# Altium footprint library Galio-connectors.PcbLib: 64 footprints (part 4 of 4)
Each footprint in its own frame and in the unit in brackets; x right, y up, seen from the top. Pads: shape width x height; smd on the part's side, far side on the other; paste and mask are expansions set on the pad; w line width, h text height; cw(c..) or ccw(c..) is an arc to the next point about the centre after c.
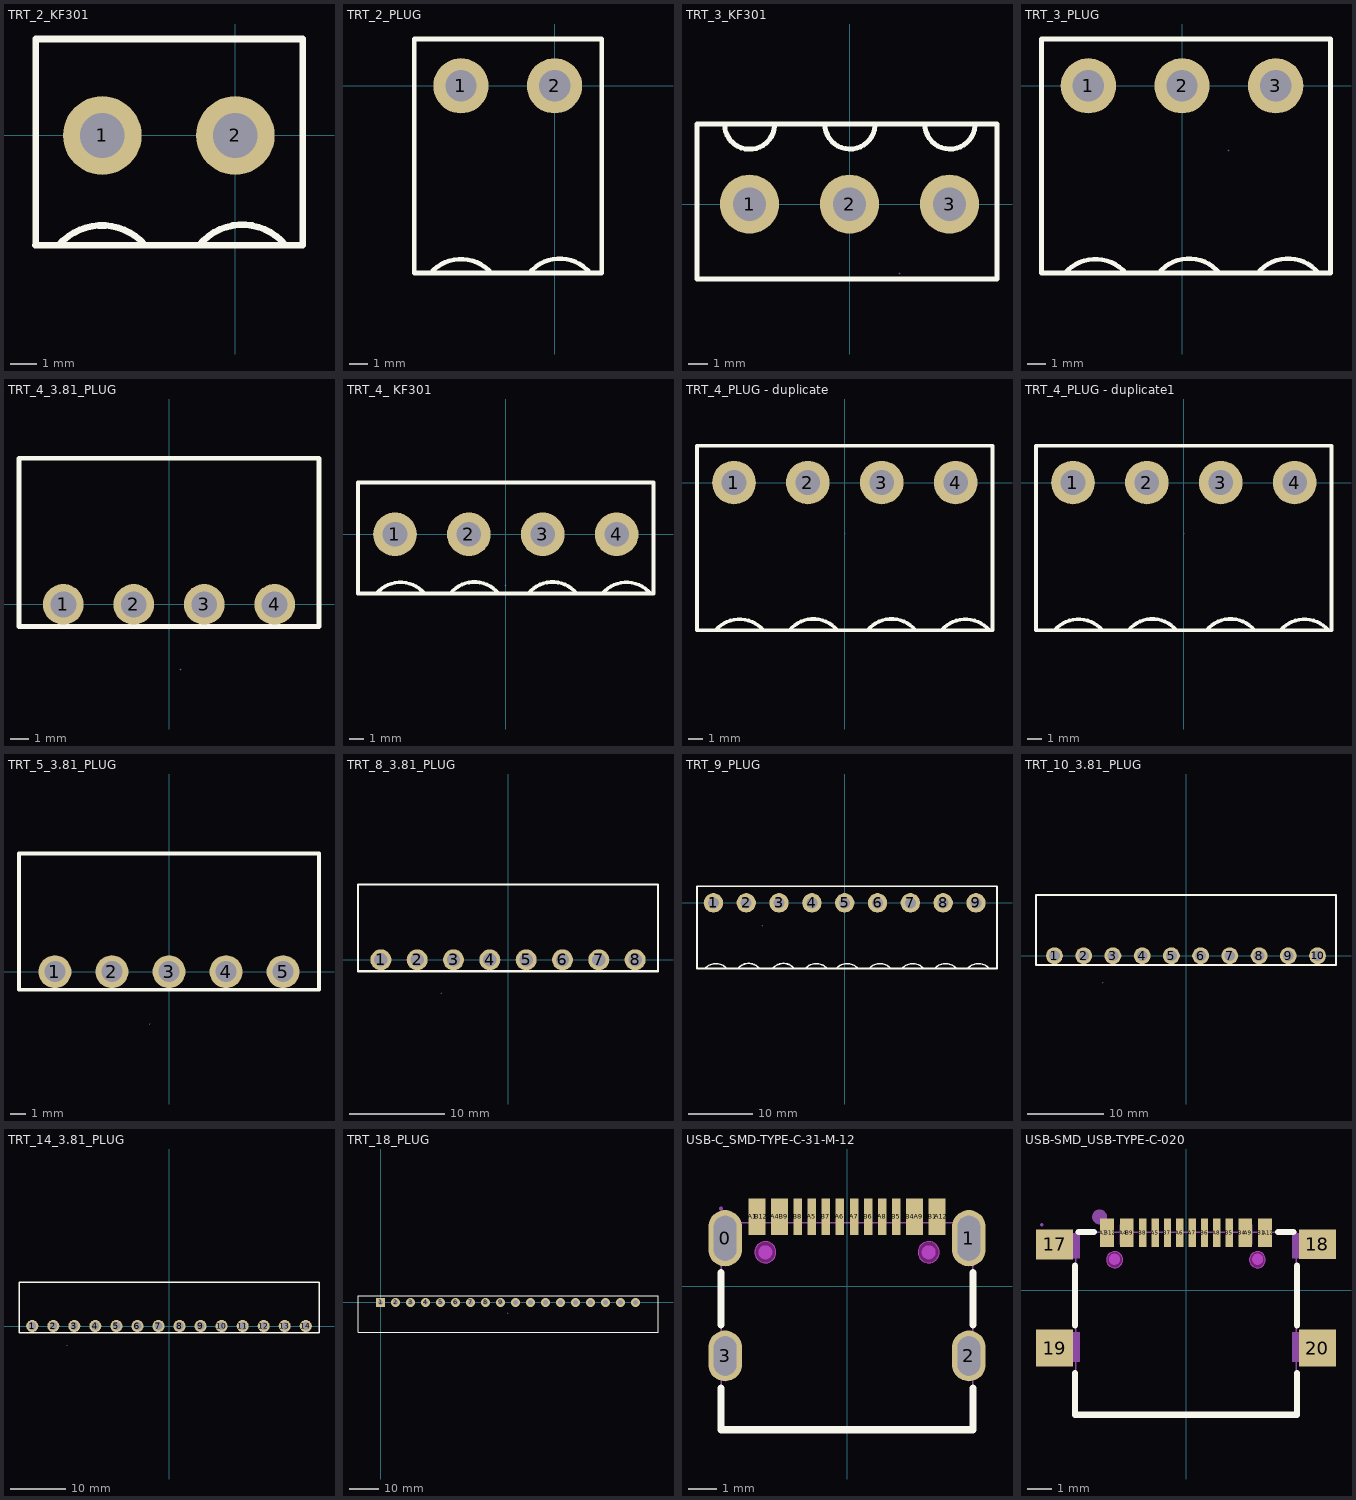
[diagram p3: the footprints below, top view; thin cyan lines are the x and y axes]

## TRT_2_KF301 [mm] "Bornera KF301 de 2 Pines 5mm"
pads (2):
  round 3 hole 1.7: 1(-5.08,0) 2(0,0)
Top Overlay:
  lines w0.254: -7.633,-4.191 2.553,-4.191 ; -7.62,-4.191 -7.62,3.683 0.019,3.683 2.565,3.683 2.565,-4.191 ; -6.744,-4.191 cw(c-5.093,-5.598) -3.442,-4.191 ; -1.384,-4.191 cw(c0.267,-5.526) 1.918,-4.191
Mechanical 15:
  lines w0.003: 2.515,-3.529 2.565,-3.478
3D body "kf301_2.STEP": height 10.03, standoff -3.47, extent -7.413,-4.064 2.587,3.536

## TRT_2_PLUG [mm] "Header,Male Pin,Covered(4 Sided)"
pads (2):
  round 3 hole 1.7: 1(-5.08,0) 2(0,0)
Top Overlay:
  lines w0.254: -6.731,-10.16 cw(c-5.08,-11.567) -3.429,-10.16 ; -1.372,-10.16 cw(c0.279,-11.495) 1.93,-10.16 ; -7.62,-10.16 2.565,-10.16 2.565,2.54 -7.62,2.54 -7.62,-10.16
Mechanical 15:
  lines w0.003: 2.515,-3.529 2.565,-3.478
3D body "14043.stp": height 8.6, standoff -3.5, extent -8.645,-9.996 3.515,2.007

## TRT_3_KF301 [mm] "Bornera KF301 3 pines"
pads (3):
  round 3 hole 1.7: 1(-5.08,0) 2(0,0) 3(5.08,0)
Top Overlay:
  lines w0.254: -6.35,4.064 ccw(c-5.074,4.064) -3.8,3.979 ; -1.254,4.07 ccw(c0.023,4.07) 1.296,3.985 ; 3.826,4.07 ccw(c5.103,4.07) 6.376,3.985 ; -7.747,-3.81 -7.747,4.064 7.493,4.064 7.493,-3.81 -7.747,-3.81
Mechanical 15:
  lines w0.003: 2.515,-3.529 2.565,-3.478
3D body "kf301_3.STEP": height 10, standoff -3.5, extent -7.634,-3.663 7.366,3.937

## TRT_3_PLUG [mm] "Header,Male Pin,Covered(4 Sided)"
pads (3):
  round 3 hole 1.7: 1(-5.08,0) 2(0,0) 3(5.08,0)
Top Overlay:
  lines w0.254: -6.35,-10.16 cw(c-4.699,-11.567) -3.048,-10.16 ; -1.27,-10.16 cw(c0.381,-11.495) 2.032,-10.16 ; 4.105,-10.16 cw(c5.756,-11.495) 7.407,-10.16 ; -7.62,-10.16 -7.62,2.54 8.052,2.54 8.052,-10.16 -7.62,-10.16
Mechanical 15:
  lines w0.003: 2.515,-3.529 2.565,-3.478
3D body "70054630.stp": height 8.6, standoff -3.5, extent -8.62,-9.957 8.62,2.045

## TRT_4_3.81_PLUG [mm] "Header,Male Pin,Covered(4 Sided)"
pads (4):
  round 2.2 hole 1.4: 1(-5.715,0) 2(-1.905,0) 3(1.905,0) 4(5.715,0)
Top Overlay:
  lines w0.254: -8.115,-1.2 8.115,-1.2 8.115,7.9 -8.115,7.9 -8.115,-1.2
Mechanical 15:
  lines w0.003: 0.61,-3.529 0.66,-3.478
3D body "15EDGRC-3.81-04P-14-00AH.STEP": height 7.2, standoff -3.4, extent -7.964,-1.194 8.066,8.006

## TRT_4_ KF301 [mm] "Bornera KF301 de 4 Pines 5mm"
pads (4):
  round 3 hole 1.7: 1(-7.62,0) 2(-2.54,0) 3(2.54,0) 4(7.62,0)
Top Overlay:
  lines w0.254: -8.89,-4.064 cw(c-7.239,-5.471) -5.588,-4.064 ; -3.81,-4.064 cw(c-2.159,-5.399) -0.508,-4.064 ; 1.565,-4.064 cw(c3.216,-5.399) 4.867,-4.064 ; 6.645,-4.064 cw(c8.296,-5.471) 9.947,-4.064 ; -10.16,-4.064 -10.16,3.556 10.16,3.556 10.16,-4.064 -10.16,-4.064
Mechanical 15:
  lines w0.003: -0.025,-3.529 0.025,-3.478
3D body "kf301_4.STEP": height 10.05, standoff -3.45, extent -10,-4.064 10,3.536

## TRT_4_PLUG - duplicate [mm] "Header,Male Pin,Covered(4 Sided)"
pads (4):
  round 3 hole 1.7: 1(-7.62,0) 2(-2.54,0) 3(2.54,0) 4(7.62,0)
Top Overlay:
  lines w0.254: -8.89,-10.16 cw(c-7.239,-11.567) -5.588,-10.16 ; -3.81,-10.16 cw(c-2.159,-11.495) -0.508,-10.16 ; 1.565,-10.16 cw(c3.216,-11.495) 4.867,-10.16 ; 6.645,-10.16 cw(c8.296,-11.567) 9.947,-10.16 ; -10.16,-10.16 -10.16,2.54 10.16,2.54 10.16,-10.16 -10.16,-10.16
Mechanical 15:
  lines w0.003: -0.025,-3.529 0.025,-3.478
3D body "64571.stp": height 8.6, standoff -3.5, extent -11.201,-9.938 11.119,2.064

## TRT_4_PLUG - duplicate1 [mm] "Header,Male Pin,Covered(4 Sided)"
pads (4):
  round 3 hole 1.7: 1(-7.62,0) 2(-2.54,0) 3(2.54,0) 4(7.62,0)
Top Overlay:
  lines w0.254: -8.89,-10.16 cw(c-7.239,-11.567) -5.588,-10.16 ; -3.81,-10.16 cw(c-2.159,-11.495) -0.508,-10.16 ; 1.565,-10.16 cw(c3.216,-11.495) 4.867,-10.16 ; 6.645,-10.16 cw(c8.296,-11.567) 9.947,-10.16 ; -10.16,-10.16 -10.16,2.54 10.16,2.54 10.16,-10.16 -10.16,-10.16
Mechanical 15:
  lines w0.003: -0.025,-3.529 0.025,-3.478
3D body "64571.stp": height 8.6, standoff -3.5, extent -11.201,-9.938 11.119,2.064

## TRT_5_3.81_PLUG [mm] "Header,Male Pin,Covered(5 Sided)"
pads (5):
  round 2.2 hole 1.4: 1(-7.62,0) 2(-3.81,0) 3(0,0) 4(3.81,0) 5(7.62,0)
Top Overlay:
  lines w0.254: -10.02,-1.2 10.02,-1.2 10.02,7.9 -10.02,7.9 -10.02,-1.2
Mechanical 15:
  lines w0.003: -1.295,-3.529 -1.245,-3.478
3D body "15EDGRC-3.81-05P-14-00AH.STEP": height 7.2, standoff -3.4, extent -9.906,-1.067 9.934,8.133

## TRT_8_3.81_PLUG [mm] "Header,Male Pin,Covered(8)"
pads (8):
  round 2.2 hole 1.4: 1(-13.335,0) 2(-9.525,0) 3(-5.715,0) 4(-1.905,0) 5(1.905,0) 6(5.715,0) 7(9.525,0) 8(13.335,0)
Top Overlay:
  lines w0.254: -15.735,-1.2 -15.735,7.9 15.735,7.9 15.735,-1.2 -15.735,-1.2
Mechanical 15:
  lines w0.003: -7.01,-3.529 -6.96,-3.478
3D body "15EDGRC-3.81-08P-14-00AH.STEP": height 7.2, standoff -3.4, extent -15.672,-1.168 15.598,8.032

## TRT_9_PLUG [mm] "Header,Male Pin,Covered(9 Sided)"
pads (9):
  round 3 hole 1.7: 1(-20.32,0) 2(-15.24,0) 3(-10.16,0) 4(-5.08,0) 5(0,0) 6(5.08,0) 7(10.16,0) 8(15.24,0) 9(20.32,0)
Top Overlay:
  lines w0.254: -21.59,-10.16 cw(c-19.939,-11.567) -18.288,-10.16 ; -16.51,-10.16 cw(c-14.859,-11.495) -13.208,-10.16 ; -11.135,-10.16 cw(c-9.484,-11.495) -7.833,-10.16 ; -6.055,-10.16 cw(c-4.404,-11.567) -2.753,-10.16 ; -1.27,-10.16 cw(c0.381,-11.567) 2.032,-10.16 ; 3.81,-10.16 cw(c5.461,-11.567) 7.112,-10.16 ; 8.89,-10.16 cw(c10.541,-11.567) 12.192,-10.16 ; 13.97,-10.16 cw(c15.621,-11.567) 17.272,-10.16 ; 19.05,-10.16 cw(c20.701,-11.567) 22.352,-10.16 ; -22.86,-10.16 -22.86,2.54 23.571,2.54 23.571,-10.16 -22.86,-10.16
Mechanical 15:
  lines w0.003: -12.725,-3.529 -12.675,-3.478
3D body "2EDGRC-5.08-09P-14-00AH.STEP": height 8.2, standoff -4, extent -23.549,-10.393 23.571,1.707

## TRT_10_3.81_PLUG [mm] "Header,Male Pin,Covered(10 Sided)"
pads (10):
  round 2.2 hole 1.4: 1(-17.145,0) 2(-13.335,0) 3(-9.525,0) 4(-5.715,0) 5(-1.905,0) 6(1.905,0) 7(5.715,0) 8(9.525,0) 9(13.335,0) 10(17.145,0)
Top Overlay:
  lines w0.254: -19.545,-1.2 -19.545,7.9 19.545,7.9 19.545,-1.2 -19.545,-1.2
Mechanical 15:
  lines w0.003: -10.82,-3.529 -10.77,-3.478
3D body "15EDGRC-3.81-10P-14-00AH.STEP": height 7.2, standoff -3.4, extent -19.406,-1.222 19.484,7.978

## TRT_14_3.81_PLUG [mm] "Header,Male Pin,Covered(14 Sided)"
pads (14):
  round 2.2 hole 1.4: 1(-24.765,0) 2(-20.955,0) 3(-17.145,0) 4(-13.335,0) 5(-9.525,0) 6(-5.715,0) 7(-1.905,0) 8(1.905,0) 9(5.715,0) 10(9.525,0) 11(13.335,0) 12(17.145,0) 13(20.955,0) 14(24.765,0)
Top Overlay:
  lines w0.254: -27.165,-1.2 27.165,-1.2 27.165,7.9 -27.165,7.9 -27.165,-1.2
Mechanical 15:
  lines w0.003: -18.44,-3.529 -18.39,-3.478
3D body "15EDGRC-3.81-14P-14-00AH.STEP": height 7.2, standoff -3.4, extent -27.054,-1.222 27.076,7.978

## TRT_18_PLUG [mm]
pads (18):
  rect 3x3 hole 1.8: 1(0,0)
  round 3 hole 1.8: 2(5.08,0) 3(10.16,0) 4(15.24,0) 5(20.32,0) 6(25.4,0) 7(30.48,0) 8(35.56,0) 9(40.64,0) 10(45.72,0) 11(50.8,0) 12(55.88,0) 13(60.96,0) 14(66.04,0) 15(71.12,0) 16(76.2,0) 17(81.28,0) 18(86.36,0)
Top Overlay:
  lines w0.254: -7.62,-10 93.98,-10 93.98,2.2 -7.62,2.2 -7.62,-10
Mechanical 15:
  lines w0.003: 43.155,-3.568 43.205,-3.517
3D body "User Library-5EHDR_2P.step": height 8.47, standoff -4, extent -2.515,-10.293 7.485,1.707
3D body "User Library-5EHDR_2P.step": height 8.47, standoff -4, extent 7.645,-10.293 17.645,1.707
3D body "User Library-5EHDR_2P.step": height 8.47, standoff -4, extent 17.805,-10.293 27.805,1.707
3D body "User Library-5EHDR_2P.step": height 8.47, standoff -4, extent 27.965,-10.293 37.965,1.707
3D body "User Library-5EHDR_2P.step": height 8.47, standoff -4, extent 38.125,-10.293 48.125,1.707
3D body "User Library-5EHDR_2P.step": height 8.47, standoff -4, extent 48.285,-10.293 58.285,1.707
3D body "User Library-5EHDR_2P.step": height 8.47, standoff -4, extent 58.445,-10.293 68.445,1.707
3D body "User Library-5EHDR_2P.step": height 8.47, standoff -4, extent 68.605,-10.293 78.605,1.707
3D body "User Library-5EHDR_2P.step": height 8.47, standoff -4, extent 78.765,-10.293 88.765,1.707

## USB-C_SMD-TYPE-C-31-M-12 [mm]
pads (20):
  oval 1.2x2 hole 0.8 slot 1.6 at 90 deg: 0(-4.325,1.706) 1(4.325,1.706)
  oval 1.2x1.8 hole 0.8 slot 1.4 at 90 deg: 2(4.325,-2.474) 3(-4.325,-2.474)
  rect 0.3x1.3 smd paste-100 mask+0.051: A1(-3.35,2.474) A4(-2.55,2.474) A5(-1.25,2.474) A6(-0.25,2.474) A7(0.25,2.474) A8(1.25,2.474) A9(2.55,2.474) A12(3.35,2.474) B1(3.05,2.474) B4(2.25,2.474) B5(1.75,2.474) B6(0.75,2.474) B7(-0.75,2.474) B8(-1.75,2.474) B9(-2.25,2.474) B12(-3.05,2.474)
Top Overlay:
  lines w0.254: -4.469,-3.613 -4.469,-5.094 4.471,-5.094 4.471,-3.612 ; -4.469,-1.376 -4.469,0.487 ; 4.471,-1.376 4.471,0.488
Top Paste:
  drawing of 16 lines, arcs and shapes, not listed
Keep-Out Layer:
  board cut-out: 3.275,1.206 3.275,1.131 3.218,0.993 3.112,0.888 2.975,0.831 2.825,0.831 2.687,0.888 2.582,0.993 2.525,1.131 2.525,1.206 2.525,1.28 2.582,1.418 2.687,1.524 2.825,1.581 2.975,1.581 3.112,1.524 3.218,1.418 3.275,1.28
  board cut-out: -2.525,1.206 -2.525,1.131 -2.582,0.993 -2.687,0.888 -2.825,0.831 -2.975,0.831 -3.112,0.888 -3.218,0.993 -3.275,1.131 -3.275,1.206 -3.275,1.28 -3.218,1.418 -3.112,1.524 -2.975,1.581 -2.825,1.581 -2.687,1.524 -2.582,1.418 -2.525,1.28
Keep-Out Layer:
  circle w0.025: c2.9,1.206 r0.375
  circle w0.025: c-2.9,1.206 r0.375
  region: 3.275,1.206 3.275,1.131 3.218,0.993 3.112,0.888 2.975,0.831 2.825,0.831 2.687,0.888 2.582,0.993 2.525,1.131 2.525,1.206 2.525,1.28 2.582,1.418 2.687,1.524 2.825,1.581 2.975,1.581 3.112,1.524 3.218,1.418 3.275,1.28
  region: -2.525,1.206 -2.525,1.131 -2.582,0.993 -2.687,0.888 -2.825,0.831 -2.975,0.831 -3.112,0.888 -3.218,0.993 -3.275,1.131 -3.275,1.206 -3.275,1.28 -3.218,1.418 -3.112,1.524 -2.975,1.581 -2.825,1.581 -2.687,1.524 -2.582,1.418 -2.525,1.28
Mechanical 1:
  circle w0.025: c2.9,1.206 r0.375
  circle w0.025: c-2.9,1.206 r0.375
Mechanical 6:
  circle w0.25: c-2.9,1.206 r0.125
  circle w0.25: c2.9,1.206 r0.125
Mechanical 15:
  region: -3.41,2.756 -3.21,2.756 -3.21,2.056 -3.41,2.056
  region: -3.21,2.756 -3.01,2.756 -3.01,2.056 -3.21,2.056
  region: -2.61,2.756 -2.41,2.756 -2.41,2.056 -2.61,2.056
  region: -2.41,2.756 -2.21,2.756 -2.21,2.056 -2.41,2.056
  region: 2.21,2.756 2.41,2.756 2.41,2.056 2.21,2.056
  region: 2.41,2.756 2.61,2.756 2.61,2.056 2.41,2.056
  region: -1.85,2.756 -1.65,2.756 -1.65,2.056 -1.85,2.056
  region: -1.35,2.756 -1.15,2.756 -1.15,2.056 -1.35,2.056
  region: -0.85,2.756 -0.65,2.756 -0.65,2.056 -0.85,2.056
  region: -0.35,2.756 -0.15,2.756 -0.15,2.056 -0.35,2.056
  region: 0.15,2.756 0.35,2.756 0.35,2.056 0.15,2.056
  region: 0.65,2.756 0.85,2.756 0.85,2.056 0.65,2.056
  region: 1.15,2.756 1.35,2.756 1.35,2.056 1.15,2.056
  region: 1.65,2.756 1.85,2.756 1.85,2.056 1.65,2.056
  region: 3.01,2.756 3.21,2.756 3.21,2.056 3.01,2.056
  region: 3.21,2.756 3.41,2.756 3.41,2.056 3.21,2.056
  region: -4.475,2.256 -4.175,2.256 -4.175,1.156 -4.475,1.156
  region: 4.175,2.256 4.475,2.256 4.475,1.156 4.175,1.156
  region: 4.175,-2.074 4.475,-2.074 4.475,-2.874 4.175,-2.874
  region: -4.475,-2.074 -4.175,-2.074 -4.175,-2.874 -4.475,-2.874
  region: -4.415,2.756 -4.415,2.731 -4.45,2.696 -4.5,2.696 -4.535,2.731 -4.535,2.756 -4.535,2.781 -4.5,2.816 -4.45,2.816 -4.415,2.781
  lines w0.051: -4.47,-5.094 4.47,-5.094 4.47,2.256 -4.47,2.256 -4.47,-5.094
3D body "UJ20-C-H-C-4-SMT-TR--3DModel-STEP-1045993.STEP": height 3.27, standoff -0.99, extent -4.475,-4.926 4.475,2.794

## USB-SMD_USB-TYPE-C-020 [mm]
pads (20):
  rect 1.5x1.2 smd paste-100 mask+0.05: 17(-5.325,1.86) 18(5.325,1.86)
  rect 1.5x1.5 smd paste-100 mask+0.05: 19(-5.325,-2.34) 20(5.325,-2.34)
  rect 0.3x1.15 smd paste-100 mask+0.05: A1(-3.325,2.34) A4(-2.525,2.34) A5(-1.25,2.34) A6(-0.25,2.34) A7(0.25,2.34) A8(1.25,2.34) A9(2.525,2.34) A12(3.325,2.34) B1(3.075,2.34) B4(2.275,2.34) B5(1.75,2.34) B6(0.75,2.34) B7(-0.75,2.34) B8(-1.75,2.34) B9(-2.275,2.34) B12(-3.075,2.34)
Top Overlay:
  lines w0.254: -4.5,-3.359 -4.5,-3.655 -4.5,-5.04 4.5,-5.04 4.5,-3.655 4.5,-3.359 ; -4.5,-1.422 -4.5,0.991 ; -4.5,-1.126 -4.5,0.397 ; -4.344,2.36 -3.731,2.36 ; 3.731,2.36 4.344,2.36 ; 4.5,-1.422 4.5,0.992 ; 4.5,-1.025 4.5,0.498
Top Paste:
  region: 1.6,2.915 1.9,2.915 1.9,1.765 1.6,1.765
  region: 1.1,2.915 1.4,2.915 1.4,1.765 1.1,1.765
  region: 0.6,2.915 0.9,2.915 0.9,1.765 0.6,1.765
  region: 0.1,2.915 0.4,2.915 0.4,1.765 0.1,1.765
  region: -0.4,2.915 -0.1,2.915 -0.1,1.765 -0.4,1.765
  region: -0.9,2.915 -0.6,2.915 -0.6,1.765 -0.9,1.765
  region: -1.4,2.915 -1.1,2.915 -1.1,1.765 -1.4,1.765
  region: -1.9,2.915 -1.6,2.915 -1.6,1.765 -1.9,1.765
  region: -6.075,2.46 -4.575,2.46 -4.575,1.26 -6.075,1.26
  region: -6.075,-1.59 -4.575,-1.59 -4.575,-3.09 -6.075,-3.09
  region: 4.575,-1.59 6.075,-1.59 6.075,-3.09 4.575,-3.09
  region: 4.575,2.46 6.075,2.46 6.075,1.26 4.575,1.26
  region: 3.475,1.765 3.475,2.915 3.225,2.915 3.175,2.915 2.925,2.915 2.925,1.765 3.175,1.765 3.225,1.765
  region: -3.475,2.915 -3.475,1.765 -3.225,1.765 -3.175,1.765 -2.925,1.765 -2.925,2.915 -3.175,2.915 -3.225,2.915
  region: -2.125,1.765 -2.125,2.915 -2.375,2.915 -2.425,2.915 -2.675,2.915 -2.675,1.765 -2.425,1.765 -2.375,1.765
  region: 2.125,2.915 2.125,1.765 2.375,1.765 2.425,1.765 2.675,1.765 2.675,2.915 2.425,2.915 2.375,2.915
Keep-Out Layer:
  board cut-out: 3.215,1.24 3.215,1.176 3.166,1.056 3.074,0.965 2.955,0.915 2.825,0.915 2.706,0.965 2.614,1.056 2.565,1.176 2.565,1.24 2.565,1.305 2.614,1.424 2.706,1.516 2.825,1.565 2.955,1.565 3.074,1.516 3.166,1.424 3.215,1.305
  board cut-out: -2.565,1.24 -2.565,1.176 -2.614,1.056 -2.706,0.965 -2.825,0.915 -2.955,0.915 -3.074,0.965 -3.166,1.056 -3.215,1.176 -3.215,1.24 -3.215,1.305 -3.166,1.424 -3.074,1.516 -2.955,1.565 -2.825,1.565 -2.706,1.516 -2.614,1.424 -2.565,1.305
Keep-Out Layer:
  circle w0.025: c2.89,1.24 r0.325
  circle w0.025: c-2.89,1.24 r0.325
  region: 3.215,1.24 3.215,1.176 3.166,1.056 3.074,0.965 2.955,0.915 2.825,0.915 2.706,0.965 2.614,1.056 2.565,1.176 2.565,1.24 2.565,1.305 2.614,1.424 2.706,1.516 2.825,1.565 2.955,1.565 3.074,1.516 3.166,1.424 3.215,1.305
  region: -2.565,1.24 -2.565,1.176 -2.614,1.056 -2.706,0.965 -2.825,0.915 -2.955,0.915 -3.074,0.965 -3.166,1.056 -3.215,1.176 -3.215,1.24 -3.215,1.305 -3.166,1.424 -3.074,1.516 -2.955,1.565 -2.825,1.565 -2.706,1.516 -2.614,1.424 -2.565,1.305
Mechanical 1:
  circle w0.025: c2.89,1.24 r0.325
  circle w0.025: c-2.89,1.24 r0.325
Mechanical 6:
  circle w0.225: c2.9,1.26 r0.113
  circle w0.225: c-2.9,1.26 r0.113
  circle w0.3: c-3.5,2.975 r0.15
Mechanical 15:
  region: -5.78,2.66 -5.78,2.635 -5.815,2.6 -5.865,2.6 -5.9,2.635 -5.9,2.66 -5.9,2.685 -5.865,2.72 -5.815,2.72 -5.78,2.685
  region: -1.85,2.66 -1.65,2.66 -1.65,1.86 -1.85,1.86
  region: -1.35,2.66 -1.15,2.66 -1.15,1.86 -1.35,1.86
  region: -0.85,2.66 -0.65,2.66 -0.65,1.86 -0.85,1.86
  region: -0.35,2.66 -0.15,2.66 -0.15,1.86 -0.35,1.86
  region: 0.15,2.66 0.35,2.66 0.35,1.86 0.15,1.86
  region: 0.65,2.66 0.85,2.66 0.85,1.86 0.65,1.86
  region: 1.15,2.66 1.35,2.66 1.35,1.86 1.15,1.86
  region: 1.65,2.66 1.85,2.66 1.85,1.86 1.65,1.86
  region: -2.375,2.66 -2.175,2.66 -2.175,1.86 -2.375,1.86
  region: 2.175,2.66 2.375,2.66 2.375,1.86 2.175,1.86
  region: -2.675,2.66 -2.475,2.66 -2.475,1.86 -2.675,1.86
  region: 2.475,2.66 2.675,2.66 2.675,1.86 2.475,1.86
  region: -3.175,2.66 -2.975,2.66 -2.975,1.86 -3.175,1.86
  region: 2.975,2.66 3.175,2.66 3.175,1.86 2.975,1.86
  region: -3.425,2.66 -3.225,2.66 -3.225,1.86 -3.425,1.86
  region: 3.225,2.66 3.425,2.66 3.425,1.86 3.225,1.86
  region: -5.84,2.31 -4.3,2.31 -4.3,1.31 -5.84,1.31
  region: 4.3,2.31 5.84,2.31 5.84,1.31 4.3,1.31
  region: 4.3,-1.69 5.84,-1.69 5.84,-2.89 4.3,-2.89
  region: -5.84,-1.69 -4.3,-1.69 -4.3,-2.89 -5.84,-2.89
  lines w0.051: -4.47,-5.04 -4.47,2.36 4.47,2.36 4.47,-5.04 -4.47,-5.04
3D body "usb-c_16pins_lateral.step": height 3.12, standoff -0.71, extent -5.95,-5.241 5.95,2.809